# Altium footprint library prj-pcblib.PcbLib: 17 footprints (part 1 of 2)
Each footprint in its own frame and in the unit in brackets; x right, y up, seen from the top. Pads: shape width x height; smd on the part's side, far side on the other; paste and mask are expansions set on the pad; w line width, h text height; cw(c..) or ccw(c..) is an arc to the next point about the centre after c.
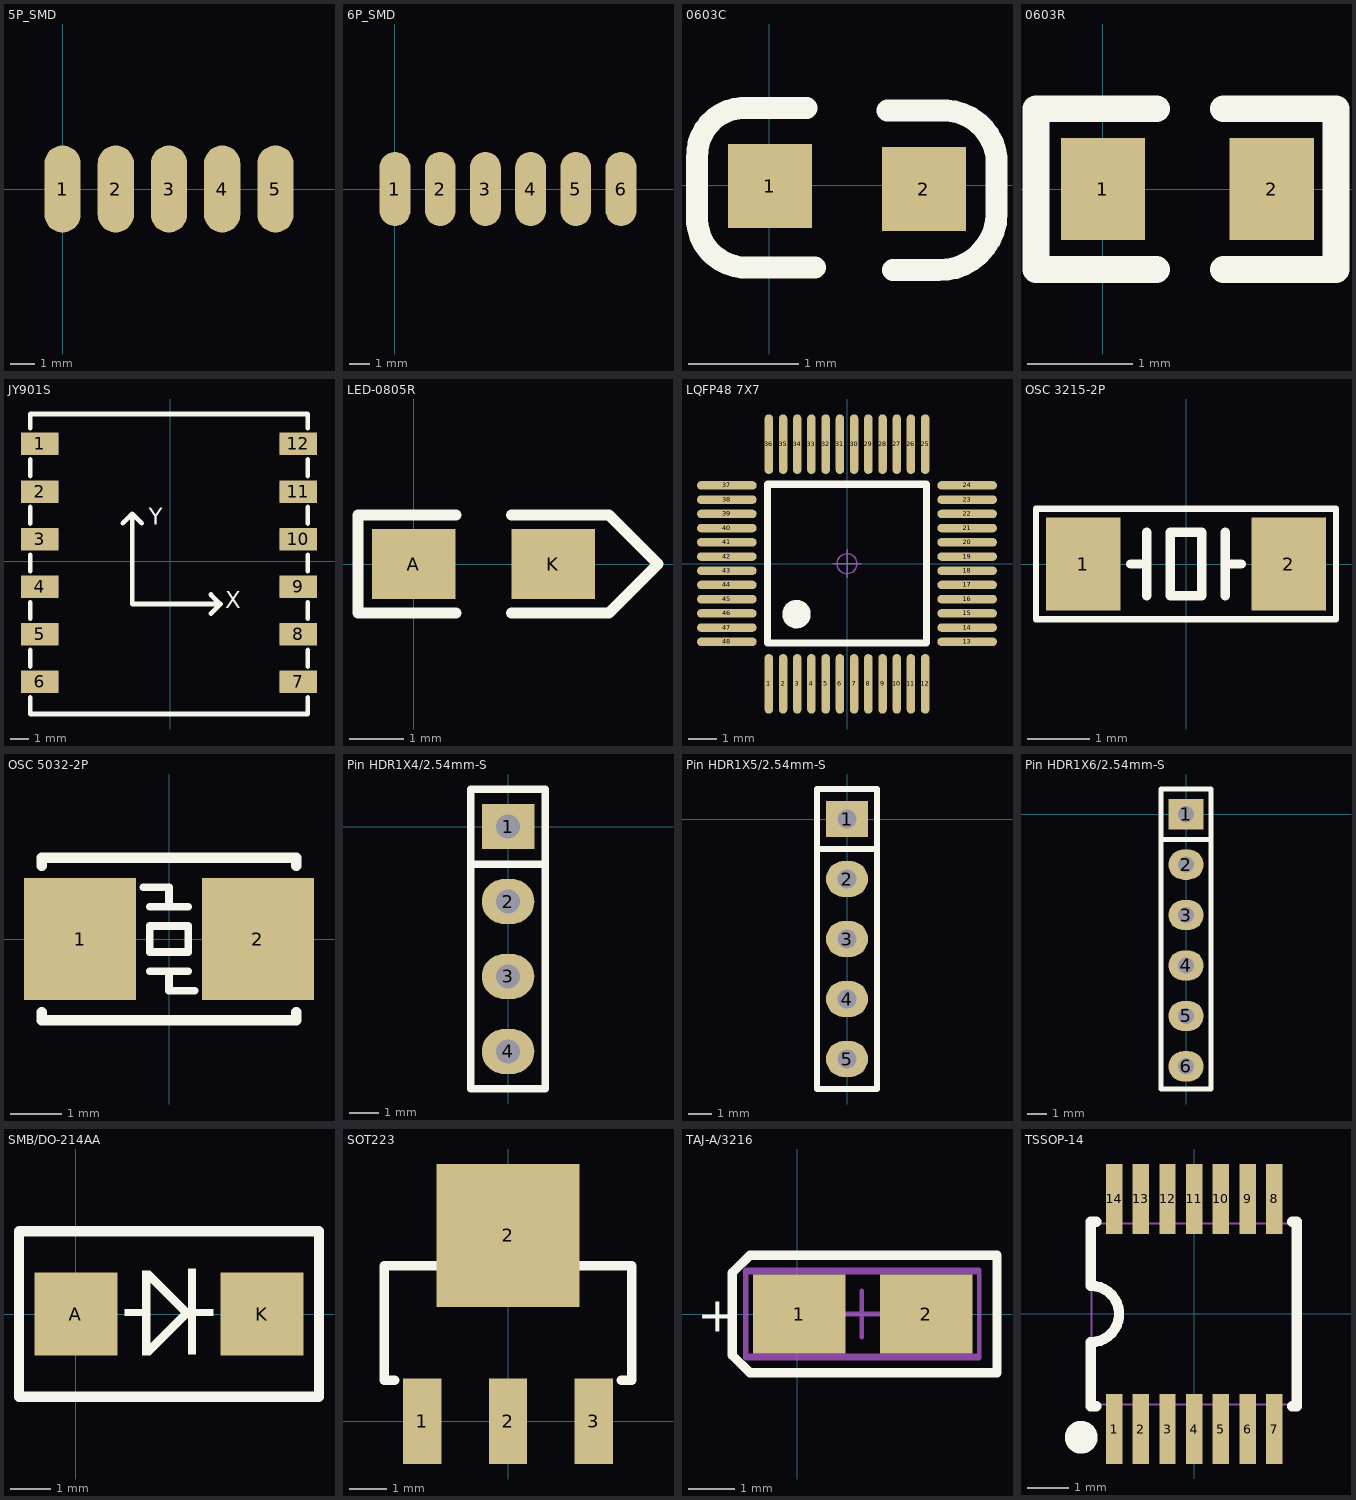
[diagram p0: the footprints below, top view; thin cyan lines are the x and y axes]

## 5P_SMD [mm]
pads (5):
  oval 1.5x3.6 smd: 1(0,0) 2(2.2,0) 3(4.4,0) 4(6.6,0) 5(8.8,0)

## 6P_SMD [mm]
pads (6):
  oval 1.5x3.6 smd: 1(0,0) 2(2.2,0) 3(4.4,0) 4(6.6,0) 5(8.8,0) 6(11,0)

## 0603C [mil]
pads (2):
  rect 30x30 smd: 1(0.21,-0.35) 2(55.21,-1.35)
Top Overlay:
  lines w7.87: 13.21,27.65 -9.79,27.65 ccw(c-8.79,10.65) -25.79,9.65 -25.79,-10.35 ccw(c-8.29,-11.85) -9.79,-29.35 16.21,-29.35 ; 42.21,26.65 60.21,26.65 cw(c62.21,7.65) 81.21,9.65 81.21,-10.35 cw(c60.71,-9.85) 60.21,-30.35 44.21,-30.35
3D body "0603 SMD Capacitor.STEP": height 11.89, standoff 0, extent -1.49,-14.99 61.5,16.5

## 0603R [mm]
pads (2):
  rect 0.8x0.965 smd: 1(0,0) 2(1.6,0)
Top Overlay:
  lines w0.254: 0.508,-0.762 -0.635,-0.762 -0.635,0.762 0.508,0.762 ; 1.143,-0.762 2.21,-0.762 2.21,0.762 1.143,0.762
3D body "RES0603.STEP": height 0.45, standoff 0, extent -0.038,-0.41 1.562,0.41

## JY901S [mm]
pads (12):
  rect 2x1.2 smd: 1(-6.976,6.26) 2(-6.976,3.72) 3(-6.976,1.18) 4(-6.976,-1.36) 5(-6.976,-3.9) 6(-6.976,-6.44) 7(6.824,-6.44) 8(6.824,-3.9) 9(6.824,-1.36) 10(6.824,1.18) 11(6.824,3.72) 12(6.824,6.26)
Top Overlay:
  lines w0.254: -7.476,-7.271 -7.476,-8.149 7.324,-8.149 7.324,-7.271 ; -7.476,-5.609 -7.476,-4.731 ; -7.476,-3.069 -7.476,-2.191 ; -7.476,-0.529 -7.476,0.349 ; -7.476,2.011 -7.476,2.889 ; -7.476,4.551 -7.476,5.429 ; -7.476,7.091 -7.476,7.855 7.324,7.855 7.324,7.091 ; -2.54,2.032 -2.032,2.54 ; -1.524,2.032 -2.032,2.54 ; 2.159,-2.794 2.667,-2.286 ; 2.159,-1.778 2.667,-2.286 ; 7.324,-5.609 7.324,-4.731 ; 7.324,-3.069 7.324,-2.191 ; 7.324,-0.529 7.324,0.349 ; 7.324,2.011 7.324,2.889 ; 7.324,4.551 7.324,5.429 ; -2.032,2.54 -2.032,-2.286 2.667,-2.286
  text "Y" at -1.143,1.651 h1.52
  text "X" at 2.921,-2.794 h1.52
Mechanical 15:
  region: -7.476,6.76 -5.976,6.76 -5.976,5.76 -7.476,5.76
  region: -7.476,4.22 -5.976,4.22 -5.976,3.22 -7.476,3.22
  region: -7.476,1.68 -5.976,1.68 -5.976,0.68 -7.476,0.68
  region: -7.476,-0.86 -5.976,-0.86 -5.976,-1.86 -7.476,-1.86
  region: -7.476,-3.4 -5.976,-3.4 -5.976,-4.4 -7.476,-4.4
  region: -7.476,-5.94 -5.976,-5.94 -5.976,-6.94 -7.476,-6.94
  region: 5.824,-5.94 7.324,-5.94 7.324,-6.94 5.824,-6.94
  region: 5.824,-3.4 7.324,-3.4 7.324,-4.4 5.824,-4.4
  region: 5.824,-0.86 7.324,-0.86 7.324,-1.86 5.824,-1.86
  region: 5.824,1.68 7.324,1.68 7.324,0.68 5.824,0.68
  region: 5.824,4.22 7.324,4.22 7.324,3.22 5.824,3.22
  region: 5.824,6.76 7.324,6.76 7.324,5.76 5.824,5.76

## LED-0805R [mil]
pads (2):
  rect 60x50 smd: A(0,0) K(100,0)
Top Overlay:
  lines w8: 30,-35 -40,-35 -40,35 30,35 ; 70,-35 140,-35 175,0 140,35 70,35
3D body "11.STEP": height 31.69, standoff -0.04, extent 10.63,-24.3 89.37,25

## LQFP48 7X7 [mm]
pads (48):
  oval 0.3x2.1 smd: 1(-2.75,-4.227) 2(-2.25,-4.227) 3(-1.75,-4.227) 4(-1.25,-4.227) 5(-0.75,-4.227) 6(-0.25,-4.227) 7(0.25,-4.227) 8(0.75,-4.227) 9(1.25,-4.227) 10(1.75,-4.227) 11(2.25,-4.227) 12(2.75,-4.227) 25(2.75,4.202) 26(2.25,4.202) 27(1.75,4.202) 28(1.25,4.202) 29(0.75,4.202) 30(0.25,4.202) 31(-0.25,4.202) 32(-0.75,4.202) 33(-1.25,4.202) 34(-1.75,4.202) 35(-2.25,4.202) 36(-2.75,4.202)
  oval 2.1x0.3 smd: 13(4.227,-2.75) 14(4.227,-2.25) 15(4.227,-1.75) 16(4.227,-1.25) 17(4.227,-0.75) 18(4.227,-0.25) 19(4.227,0.25) 20(4.227,0.75) 21(4.227,1.25) 22(4.227,1.75) 23(4.227,2.25) 24(4.227,2.75) 37(-4.227,2.75) 38(-4.227,2.25) 39(-4.227,1.75) 40(-4.227,1.25) 41(-4.227,0.75) 42(-4.227,0.25) 43(-4.227,-0.25) 44(-4.227,-0.75) 45(-4.227,-1.25) 46(-4.227,-1.75) 47(-4.227,-2.25) 48(-4.227,-2.75)
Top Overlay:
  circle w0.5: c-1.778,-1.778 r0.25
  lines w0.254: -2.794,-2.794 -2.794,2.794 2.794,2.794 2.794,-2.794 -2.794,-2.794
Mechanical 15:
  circle w0.05: c0,0 r0.35
  lines w0.05: -0.5,0 0.5,0 ; 0,-0.5 0,0.5
3D body "LQFP48 7X7.STEP": height 1.45, standoff 0, extent -4.51,-4.503 4.496,4.503

## OSC 3215-2P [mm]
pads (2):
  rect 1.2x1.5 smd: 1(-1.65,0) 2(1.65,0)
Top Overlay:
  lines w0.1: -2.413,-0.889 2.413,-0.889 2.413,0.889 -2.413,0.889 -2.413,-0.889
  lines w0.152: -0.889,0 -0.635,0 ; -0.635,-0.508 -0.635,0.508 ; 0.635,-0.508 0.635,0.508 ; 0.635,0 0.889,0 ; -0.254,-0.508 -0.254,0.508 0.254,0.508 0.254,-0.508 -0.254,-0.508
3D body "OSC 3215-2P.STEP": height 0.61, standoff -0.01, extent -1.473,-0.762 1.727,0.738

## OSC 5032-2P [mm]
pads (2):
  rect 2.2x2.4 smd: 1(-1.75,0) 2(1.75,0)
Top Overlay:
  lines w0.152: -0.508,1.016 0,1.016 0,0.635 ; -0.381,-0.635 0.381,-0.635 ; -0.381,0.635 0.381,0.635 ; 0,-0.635 0,-1.016 0.381,-1.016 0.508,-1.016 ; -0.381,-0.254 0.381,-0.254 0.381,0.254 -0.381,0.254 -0.381,-0.254
  lines w0.203: -2.5,-1.437 -2.5,-1.6 2.5,-1.6 2.5,-1.437 ; -2.5,1.437 -2.5,1.6 2.5,1.6 2.5,1.437
3D body "OSC 5032-2P.STEP": height 0.86, standoff 0.04, extent -2.5,-1.524 2.5,1.676

## Pin HDR1X4/2.54mm-S [mil]
pads (4):
  rect 70x60 hole 32: 1(0,0)
  oval 70x60 hole 32: 2(0,-100) 3(0,-200) 4(0,-300)
Top Overlay:
  lines w10: -50,-50 50,-50 ; -50,-350 -50,50 50,50 50,-350 -50,-350
3D body "1001-4.STEP": height 336.22, standoff -118.11, extent -50,-350 50,50

## Pin HDR1X5/2.54mm-S [mil]
pads (5):
  rect 70x60 hole 32: 1(0,0)
  oval 70x60 hole 32: 2(0,-100) 3(0,-200) 4(0,-300) 5(0,-400)
Top Overlay:
  lines w10: -50,-50 50,-50 ; -50,-450 50,-450 50,50 -50,50 -50,-450
3D body "1001-5.STEP": height 336.22, standoff -118.11, extent -49.99,-450 50.01,50

## Pin HDR1X6/2.54mm-S [mil]
pads (6):
  rect 70x60 hole 32: 1(0,0)
  oval 70x60 hole 32: 2(0,-100) 3(0,-200) 4(0,-300) 5(0,-400) 6(0,-500)
Top Overlay:
  lines w10: -50,-50 50,-50 ; -50,-545 50,-545 50,50 -50,50 -50,-545
3D body "1001-6.STEP": height 336.22, standoff -118.11, extent -50,-545 50,55

## SMB/DO-214AA [mil] "塑封二极管"
pads (2):
  rect 80x80 smd: A(0,0) K(180,0)
Top Overlay:
  region: 133,-2 133,5 114,5 114,-2
  region: 105.57,-3.58 111.58,2.42 72,42 65.99,35.99
  region: 65,-2 65,5 47,5 47,-2
  rectangle: 108.5,-39 116,44
  rectangle: 64,-40 72,42
  region: 111.61,-0.46 105.61,5.55 66.03,-34.03 72.04,-40.04
  lines w10: -55,-80 -55,80 235,80 235,-80 -55,-80
3D body "DO-214AA.STEP": height 98.43, standoff 0, extent -20.24,-78.54 200.24,75

## SOT223 [mil]
pads (4):
  rect 40x90 smd: 1(-90,0) 2(0,0) 3(90,0)
  rect 150x150 smd: 2(0,195)
Top Overlay:
  lines w10: -119,43 -130,43 -130,163 130,163 130,43 119,43
3D body "SOT223.STEP": height 64.96, standoff -0.74, extent -129.91,-30.12 126,246.11

## TAJ-A/3216 [mm]
pads (2):
  rect 2x1.7 smd: 1(0.047,0) 2(2.794,0)
Top Overlay:
  lines w0.2: 4.318,-1.016 4.318,1.27 -1.016,1.27 -1.397,0.889 -1.397,-0.889 -1.016,-1.27 4.318,-1.27 4.318,1.016
  text "+" at -2.159,-0.381 h0.76
Mechanical 13:
  lines w0.1: -1.092,-0.9 -1.092,0.9 3.937,0.9 3.937,-0.9 -1.092,-0.9
Mechanical 15:
  lines w0.1: 0.897,0 1.897,0 ; 1.397,-0.5 1.397,0.5 ; -1.118,-0.95 -1.118,0.95 3.937,0.95 3.937,-0.95 -1.118,-0.95
3D body "TAJ-A.STEP": height 1.6, standoff 0, extent -0.203,-0.8 2.997,0.8

## TSSOP-14 [mm]
pads (14):
  rect 0.4x1.7 smd: 1(-1.95,-2.8) 2(-1.3,-2.8) 3(-0.65,-2.8) 4(0,-2.8) 5(0.65,-2.8) 6(1.3,-2.8) 7(1.95,-2.8) 8(1.95,2.8) 9(1.3,2.8) 10(0.65,2.8) 11(0,2.8) 12(-0.65,2.8) 13(-1.3,2.8) 14(-1.95,2.8)
Top Overlay:
  circle w0.4: c-2.75,-3 r0.2
  lines w0.254: -2.515,-2.25 -2.515,-1.6 -2.515,-0.686 ccw(c-2.515,0) -2.515,0.686 -2.515,1.6 -2.515,2.25 ; -2.5,-2.25 -2.384,-2.25 ; -2.5,2.25 -2.384,2.25 ; 2.384,-2.25 2.5,-2.25 2.5,2.25 2.384,2.25
Mechanical 15:
  drawing of 33 lines, arcs and shapes, not listed
3D body "PW0014A.stp": height 1.01, standoff 0.01, extent -2.5,-3.21 2.5,3.21